# Altium schematic symbol library Diodes.SchLib: 12 symbols
Pins are listed as number, name and electrical type; pins without a type are passive.

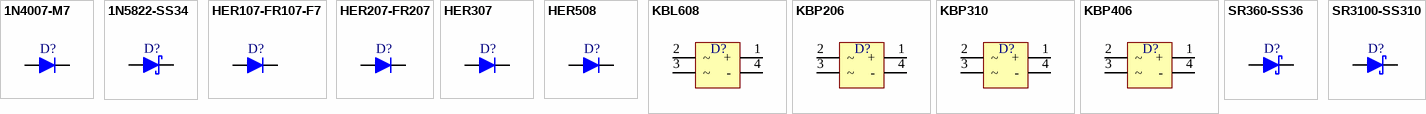
[diagram p0: symbols 1N4007-M7 to SR3100-SS310]

## 1N4007-M7
designator D?, comment 1N4007  (value not drawn)
Diode 1000V, 1A
footprint DO-214
footprint DO-41
footprint SOD-123
pins: 1 A, 2 K

## 1N5822-SS34
designator D?, comment 1N5822  (value not drawn)
Diode schottky 40V, 3A
footprint DO-214-SC
footprint DO-41-SC-V
footprint DO-41-SC
pins: 1 A, 2 K

## HER107-FR107-F7
designator D?, comment FR107  (value not drawn)
Fast recovery diode 1000V, 1A
footprint DO-214
footprint DO-41
footprint DO-41-V
footprint SOD-123
pins: 1 A, 2 K

## HER207-FR207
designator D?, comment FR207  (value not drawn)
Fast recovery diode 1000V, 2A
footprint DO-15
footprint DO-15-V
footprint DO-214
pins: 1 A, 2 K

## HER307
designator D?  (value not drawn)
Fast recovery diode 1000V, 3A
footprint DO-27
footprint DO-27-V
pins: 1 A, 2 K

## HER508
designator D?  (value not drawn)
Fast recovery diode 1000V, 5A
footprint DO-27
footprint DO-27-V
pins: 1 A, 2 K

## KBL608
designator D?  (value not drawn)
Diode, bridge rectifier 800V, 6A
footprint KBL
pins: 1 +, 2 ~, 3 ~, 4 -

## KBP206
designator D?, comment KBL608  (value not drawn)
Diode, bridge rectifier 600V, 2A
footprint KBP
pins: 1 +, 2 ~, 3 ~, 4 -

## KBP310
designator D?, comment KBL608  (value not drawn)
Diode, bridge rectifier 1000V, 3A
footprint KBP
pins: 1 +, 2 ~, 3 ~, 4 -

## KBP406
designator D?, comment KBL608  (value not drawn)
Diode, bridge rectifier 600V, 4A
footprint KBP
pins: 1 +, 2 ~, 3 ~, 4 -

## SR360-SS36
designator D?, comment SR360  (value not drawn)
Diode schottky 60V, 3A
footprint DO-214-SC
footprint DO-41-SC-V
footprint DO-41-SC
pins: 1 A, 2 K

## SR3100-SS310
designator D?, comment SR3100  (value not drawn)
Diode schottky 100V, 3A
footprint DO-41-SC
footprint DO-41-SC-V
footprint DO-214-SC
pins: 1 A, 2 K